# EAGLE library part AS-ITM-00367 (library tinycircuits)
IC THRMOCPLE TO DIG CONV 20MQFN http://ww1.microchip.com/downloads/en/DeviceDoc/20005426B.pdf
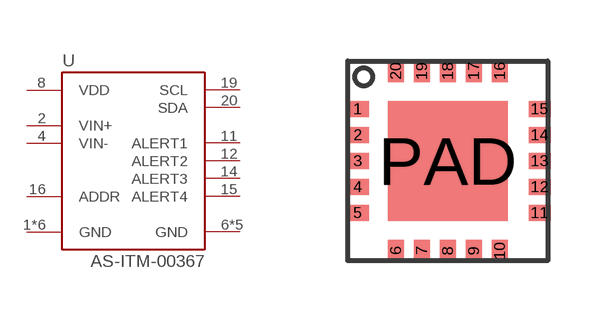
[diagram p148: symbol with the pads of MQFN_5X5; footprint MQFN_5X5]

Designator prefix U

## AS-ITM-00367 (PARTNO: AS-ITM-00367; VALUE: MCP9600)  [MQFN_5X5]
1  GND
2  VIN+
3  GND
4  VIN-
5  GND
6  GND
7  GND
8  VDD
9  GND
10  GND
11  ALERT1
12  ALERT2
13  GND
14  ALERT3
15  ALERT4
16  ADDR
17  GND
18  GND
19  SCL
20  SDA
PAD  GND

## Footprint MQFN_5X5 (pad centres in mm)
smd 0.55 x 0.4: 1 -2.25,1.3; 2 -2.25,0.65; 3 -2.25,0; 4 -2.25,-0.65; 5 -2.25,-1.3; 11 2.3,-1.3; 12 2.3,-0.65; 13 2.3,0; 14 2.3,0.65; 15 2.3,1.3
smd 0.4 x 0.55: 6 -1.3,-2.25; 7 -0.65,-2.25; 8 0,-2.25; 9 0.65,-2.25; 10 1.3,-2.25; 16 1.3,2.25; 17 0.65,2.25; 18 0,2.25; 19 -0.65,2.25; 20 -1.3,2.25
smd 3 x 3: PAD 0,0